# Altium schematic symbol library Resistores0805.SchLib: 4 symbols
Pins are listed as number, name and electrical type; pins without a type are passive.

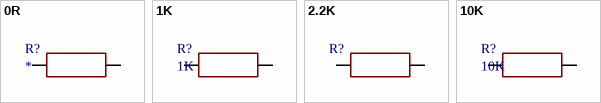
[diagram p0: symbols 0R to 10K]

## 0R
designator R?
Value: 0Ohms; max Voltage: 150V; Tolerance: ±5%; Power: 0.125W; Help-URL: https://www.chipdip.by/product/0.125w-0805-peremychka-0-om
footprint R0805 0
pins: 1, 2

## 1K
designator R?
Value: 1kOhms; Power: 0.125W; max Voltage: 150V; Tolerance: ±5%; Help-URL: https://www.chipdip.by/product/0.125w-0805-1-kom-5
footprint R0805 1K
pins: 1, 2

## 2.2K
designator R?
Value: 2.2kOhms; Power: 0.125W; max Voltage: 150V; Tolerance: ±5%; Help-URL: https://www.chipdip.by/product/0.125w-0805-2.2-kom-5
footprint R0805 2.2K
pins: 1, 2

## 10K
designator R?
Value: 10kOhms; Power: 0.125W; max Voltage: 150V; Tolerance: ±5%; Help-URL: https://www.chipdip.by/product/0.125w-0805-10-kom-5
pins: 1, 2